# Altium schematic symbol library kmilo17pet-TI_BattMgmt.SchLib: 950 symbols (part 47 of 60)
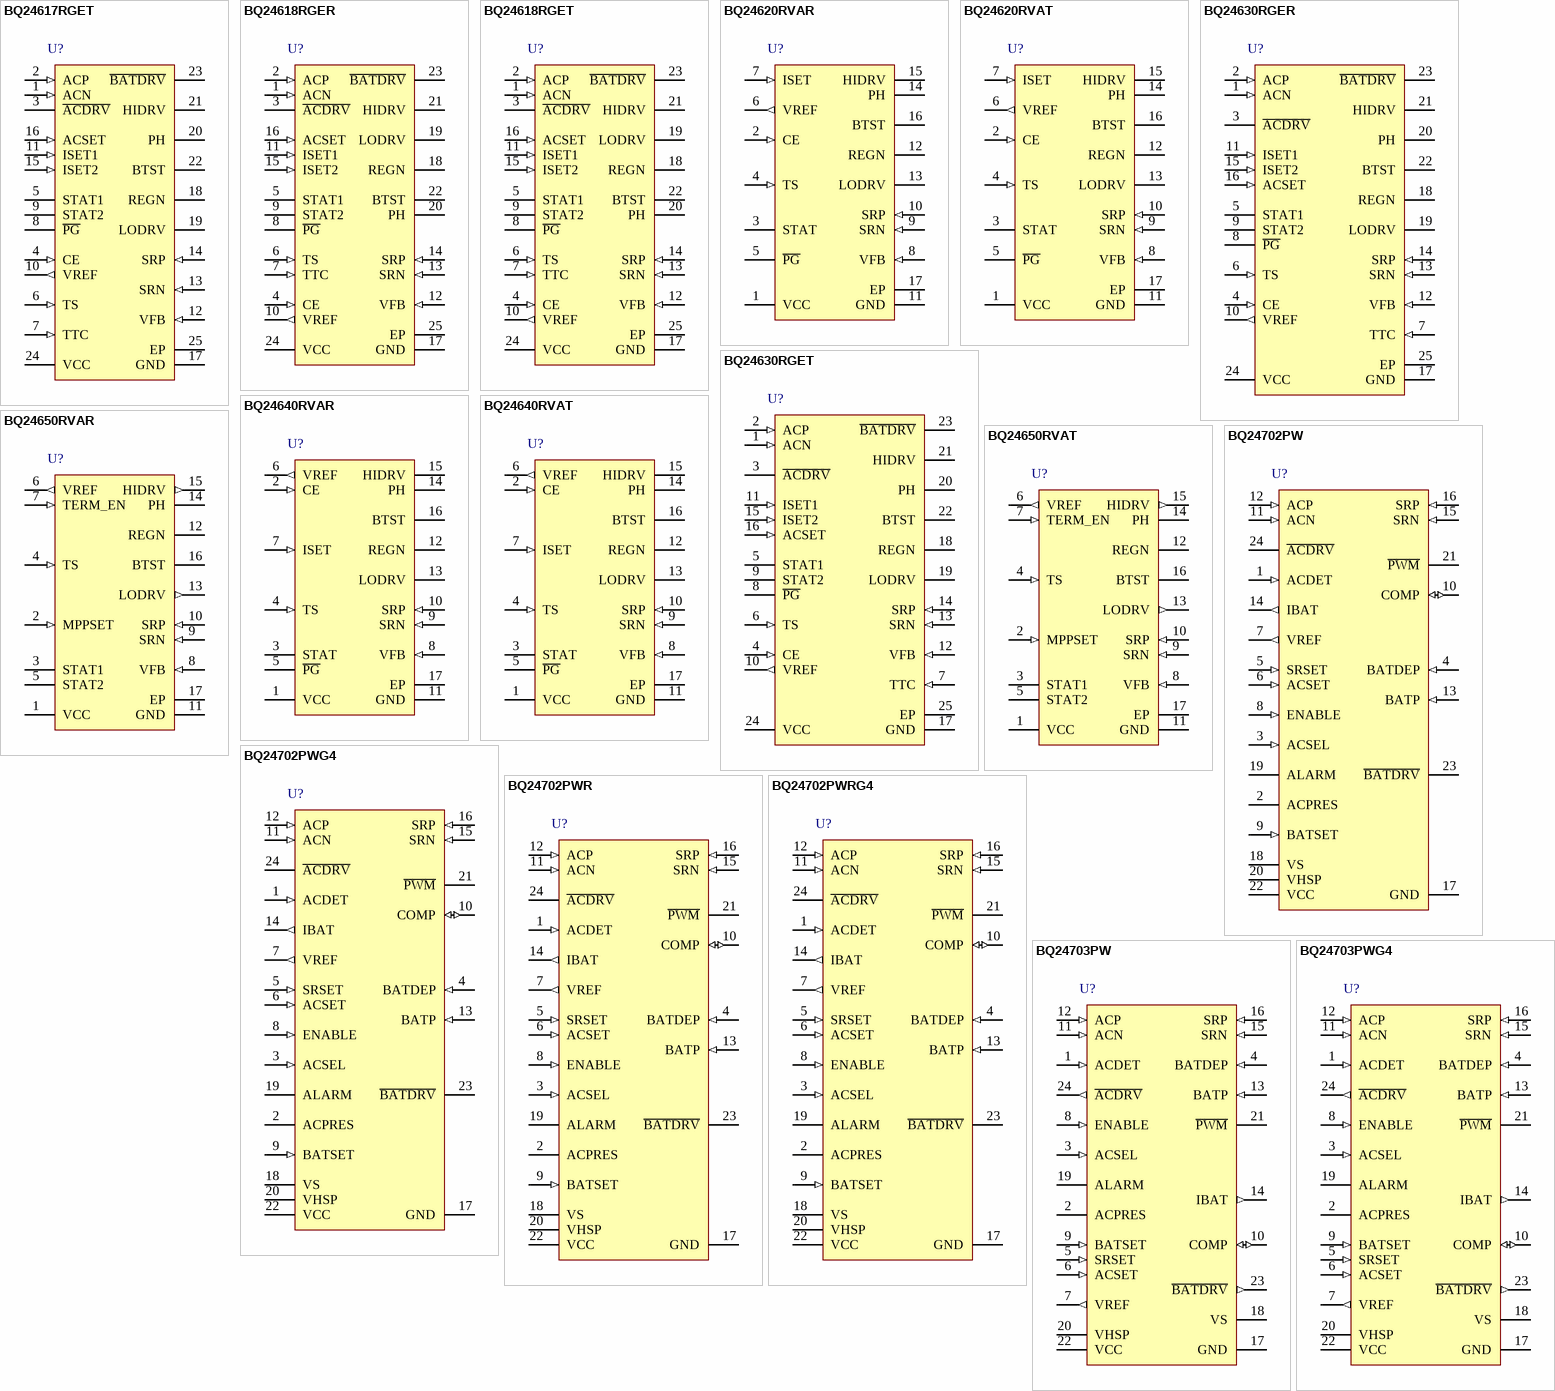
[diagram p80: symbols BQ24617RGET to BQ24703PWG4]

## BQ24703PWG4
designator U?
Multi-Chemistry Battery Charge Controller and System Power Selector, 7 V, -40 to 125 degC, 24-pin TSSOP (PW), Green (RoHS & no Sb/Br); PartNumber: BQ24703PWG4; Manufacturer: Texas Instruments; Lead Acid: Y; Over Voltage Protection: N; SubFamily: Battery Charge Management; Vin(Min)(V): 7; DatasheetVersion: SLUS553E; PackageVersion: revG, Feb-2011; PackageReference: PW24; PackageDescription: 24-Pin Thin Small Outline Package 0.65 mm Pitch; Supplier 1: Digi-Key; Supplier Part Number 1: BQ24703PWG4-ND; Supplier Part Number 3: 595-BQ24703PWG4; Eco-Plan: Green (RoHS & no Sb/Br); Li-Ion: Y; Li-Polymer: Y; NiCd: Y; NiMH: Y; Mounting Technology: Surface Mount; Code_JEDEC: MO-153; ComponentLink1Description: Datasheet; ComponentLink1URL: http://www.ti.com/general/docs/lit/getliterature.tsp?genericPartNumber=BQ24703&fileType=pdf
footprint PW24_N (TSOP, 24-Leads, Body 7.8x4.4mm, Pitch 0.65mm, IPC Medium Density)
footprint PW24_L (TSOP, 24-Leads, Body 7.8x4.4mm, Pitch 0.65mm, IPC High Density)
footprint PW24_M (TSOP, 24-Leads, Body 7.8x4.4mm, Pitch 0.65mm, IPC Low Density)
pins: 1 ACDET (in) "AC or adapter power detection", 2 ACPRES (oc) "AC power indicator", 3 ACSEL (in) "AC adapter power select", 4 BATDEP (in) "Depleted battery level", 5 SRSET (in) "Battery charge current programming voltage", 6 ACSET (in) "Adapter current programming voltage", 7 VREF (out) "Precision 5-V reference", 8 ENABLE (in) "Charge enable", 9 BATSET (in) "External override to an internal precision reference", 10 COMP (io) "Inverting input to the PWM comparator", 11 ACN (in) "Negative differential input", 12 ACP (in) "Positive differential input", 13 BATP (in) "Battery charge regulation voltage measurement input to the battery-voltage gm amplifier", 14 IBAT (out) "Battery current differential amplifier output", 15 SRN (in) "Negative differential battery current sense amplifier input", 16 SRP (in) "Positive differential battery current sense amplifier input", 17 GND (power) "Supply return and ground reference", 18 VS (power) "System (load) voltage input pin", 19 ALARM (oc) "Alarm output", 20 VHSP (power) "Voltage source to drive gates of the external MOSFETs", 21 ~{PWM} "Gate drive output", 22 VCC (power) "Operational supply voltage", 23 ~{BATDRV} (out) "Battery power source select output", 24 ~{ACDRV} (out) "AC or adapter power source selection output"

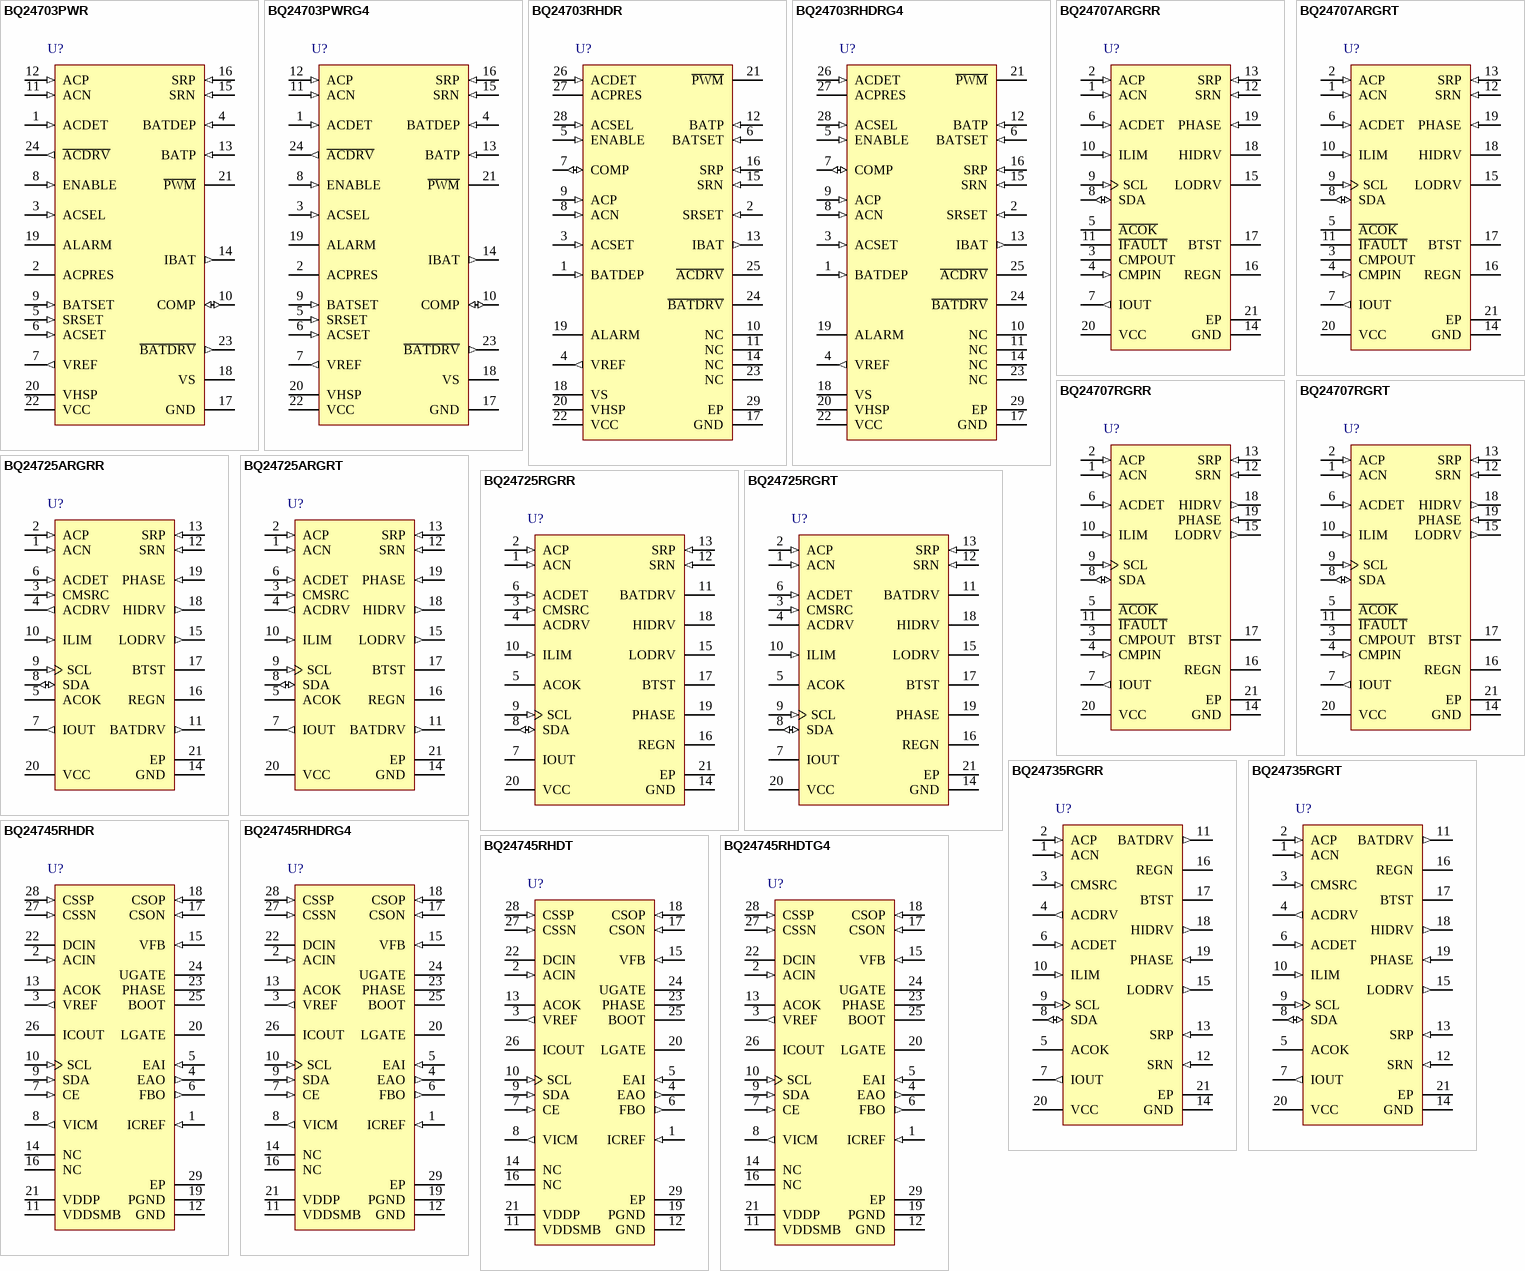
[diagram p26: symbols BQ24703PWR to BQ24745RHDTG4]

## BQ24703PWR
designator U?
Multi-Chemistry Battery Charge Controller and System Power Selector, 7 V, -40 to 125 degC, 24-pin TSSOP (PW), Green (RoHS & no Sb/Br); PartNumber: BQ24703PWR; Manufacturer: Texas Instruments; Lead Acid: Y; Over Voltage Protection: N; SubFamily: Battery Charge Management; Vin(Min)(V): 7; DatasheetVersion: SLUS553E; PackageVersion: revG, Feb-2011; PackageReference: PW24; PackageDescription: 24-Pin Thin Small Outline Package 0.65 mm Pitch; Supplier 1: Digi-Key; Supplier Part Number 1: BQ24703PWR-ND; Supplier Part Number 3: 595-BQ24703PWR; Eco-Plan: Green (RoHS & no Sb/Br); Li-Ion: Y; Li-Polymer: Y; NiCd: Y; NiMH: Y; Mounting Technology: Surface Mount; Code_JEDEC: MO-153; ComponentLink1Description: Datasheet; ComponentLink1URL: http://www.ti.com/general/docs/lit/getliterature.tsp?genericPartNumber=BQ24703&fileType=pdf
footprint PW24_N (TSOP, 24-Leads, Body 7.8x4.4mm, Pitch 0.65mm, IPC Medium Density)
footprint PW24_L (TSOP, 24-Leads, Body 7.8x4.4mm, Pitch 0.65mm, IPC High Density)
footprint PW24_M (TSOP, 24-Leads, Body 7.8x4.4mm, Pitch 0.65mm, IPC Low Density)
pins: 1 ACDET (in) "AC or adapter power detection", 2 ACPRES (oc) "AC power indicator", 3 ACSEL (in) "AC adapter power select", 4 BATDEP (in) "Depleted battery level", 5 SRSET (in) "Battery charge current programming voltage", 6 ACSET (in) "Adapter current programming voltage", 7 VREF (out) "Precision 5-V reference", 8 ENABLE (in) "Charge enable", 9 BATSET (in) "External override to an internal precision reference", 10 COMP (io) "Inverting input to the PWM comparator", 11 ACN (in) "Negative differential input", 12 ACP (in) "Positive differential input", 13 BATP (in) "Battery charge regulation voltage measurement input to the battery-voltage gm amplifier", 14 IBAT (out) "Battery current differential amplifier output", 15 SRN (in) "Negative differential battery current sense amplifier input", 16 SRP (in) "Positive differential battery current sense amplifier input", 17 GND (power) "Supply return and ground reference", 18 VS (power) "System (load) voltage input pin", 19 ALARM (oc) "Alarm output", 20 VHSP (power) "Voltage source to drive gates of the external MOSFETs", 21 ~{PWM} "Gate drive output", 22 VCC (power) "Operational supply voltage", 23 ~{BATDRV} (out) "Battery power source select output", 24 ~{ACDRV} (out) "AC or adapter power source selection output"

## BQ24703PWRG4
designator U?
Multi-Chemistry Battery Charge Controller and System Power Selector, 7 V, -40 to 125 degC, 24-pin TSSOP (PW), Green (RoHS & no Sb/Br); PartNumber: BQ24703PWRG4; Manufacturer: Texas Instruments; Lead Acid: Y; Over Voltage Protection: N; SubFamily: Battery Charge Management; Vin(Min)(V): 7; DatasheetVersion: SLUS553E; PackageVersion: revG, Feb-2011; PackageReference: PW24; PackageDescription: 24-Pin Thin Small Outline Package 0.65 mm Pitch; Supplier 1: Digi-Key; Supplier Part Number 1: BQ24703PWRG4-ND; Supplier Part Number 3: 595-BQ24703PWRG4; Eco-Plan: Green (RoHS & no Sb/Br); Li-Ion: Y; Li-Polymer: Y; NiCd: Y; NiMH: Y; Mounting Technology: Surface Mount; Code_JEDEC: MO-153; ComponentLink1Description: Datasheet; ComponentLink1URL: http://www.ti.com/general/docs/lit/getliterature.tsp?genericPartNumber=BQ24703&fileType=pdf
footprint PW24_N (TSOP, 24-Leads, Body 7.8x4.4mm, Pitch 0.65mm, IPC Medium Density)
footprint PW24_L (TSOP, 24-Leads, Body 7.8x4.4mm, Pitch 0.65mm, IPC High Density)
footprint PW24_M (TSOP, 24-Leads, Body 7.8x4.4mm, Pitch 0.65mm, IPC Low Density)
pins: 1 ACDET (in) "AC or adapter power detection", 2 ACPRES (oc) "AC power indicator", 3 ACSEL (in) "AC adapter power select", 4 BATDEP (in) "Depleted battery level", 5 SRSET (in) "Battery charge current programming voltage", 6 ACSET (in) "Adapter current programming voltage", 7 VREF (out) "Precision 5-V reference", 8 ENABLE (in) "Charge enable", 9 BATSET (in) "External override to an internal precision reference", 10 COMP (io) "Inverting input to the PWM comparator", 11 ACN (in) "Negative differential input", 12 ACP (in) "Positive differential input", 13 BATP (in) "Battery charge regulation voltage measurement input to the battery-voltage gm amplifier", 14 IBAT (out) "Battery current differential amplifier output", 15 SRN (in) "Negative differential battery current sense amplifier input", 16 SRP (in) "Positive differential battery current sense amplifier input", 17 GND (power) "Supply return and ground reference", 18 VS (power) "System (load) voltage input pin", 19 ALARM (oc) "Alarm output", 20 VHSP (power) "Voltage source to drive gates of the external MOSFETs", 21 ~{PWM} "Gate drive output", 22 VCC (power) "Operational supply voltage", 23 ~{BATDRV} (out) "Battery power source select output", 24 ~{ACDRV} (out) "AC or adapter power source selection output"

## BQ24703RHDR
designator U?
Multi-Chemistry Battery Charge Controller and System Power Selector, 7 V, -40 to 85 degC, 28-pin VQFN (RHD), Green (RoHS & no Sb/Br); PartNumber: BQ24703RHDR; Manufacturer: Texas Instruments; Lead Acid: Y; Over Voltage Protection: N; SubFamily: Battery Charge Management; Vin(Min)(V): 7; DatasheetVersion: SLUS553E; PackageVersion: revF, Sep-2011; PackageReference: RHD28-3150X3150TP; PackageDescription: 28-Pin Plastic Quad Flatpack No-Lead, 5 x 5 mm Body, 0.5 mm Pitch, Exposed Pad; Supplier 1: Digi-Key; Supplier Part Number 1: 296-17828-2-ND; Supplier Part Number 3: 296-17828-6-ND; Eco-Plan: Green (RoHS & no Sb/Br); Li-Ion: Y; Li-Polymer: Y; NiCd: Y; NiMH: Y; Mounting Technology: Surface Mount; Code_JEDEC: MO-220; ComponentLink1Description: Datasheet; ComponentLink1URL: http://www.ti.com/general/docs/lit/getliterature.tsp?genericPartNumber=BQ24703&fileType=pdf
footprint RHD28-3150X3150TP (QFN, 28-Leads, Body 5x5mm, Pitch 0.5mm, Thermal Pad 3.15x3.15mm, TI Recommended)
pins: 1 BATDEP (in) "Depleted battery level", 2 SRSET (in) "Battery charge current programming voltage", 3 ACSET (in) "Adapter current programming voltage", 4 VREF (out) "Precision 5 V reference", 5 ENABLE (in) "Charge enable", 6 BATSET (in) "External override to an internal precision reference", 7 COMP (io) "Inverting input to the PWM comparator", 8 ACN (in) "Negative differential input", 9 ACP (in) "Positive differential input", 10 NC "No internal connection", 11 NC "No internal connection", 12 BATP (in) "Battery charge regulation voltage measurement input to the battery-voltage gm amplifier", 13 IBAT (out) "Battery current differential amplifier output", 14 NC "No internal connection", 15 SRN (in) "Negative differential battery current sense amplifier input", 16 SRP (in) "Positive differential battery current sense amplifier input", 17 GND (power) "Supply return and ground reference", 18 VS (power) "System (load) voltage input pin", 19 ALARM (oc) "Alarm output", 20 VHSP (power) "Voltage source to drive gates of the external MOSFETs", 21 ~{PWM} "Gate drive output", 22 VCC (power) "Operational supply voltage", 23 NC "No internal connection", 24 ~{BATDRV} "Battery power source select output", 25 ~{ACDRV} "AC or adapter power source selection output", 26 ACDET (in) "AC or adapter power detection", 27 ACPRES (oc) "AC power indicator", 28 ACSEL (in) "AC adapter power select", 29 EP "Exposed thermal pad"

## BQ24703RHDRG4
designator U?
Multi-Chemistry Battery Charge Controller and System Power Selector, 7 V, -40 to 85 degC, 28-pin VQFN (RHD), Green (RoHS & no Sb/Br); PartNumber: BQ24703RHDRG4; Manufacturer: Texas Instruments; Lead Acid: Y; Over Voltage Protection: N; SubFamily: Battery Charge Management; Vin(Min)(V): 7; DatasheetVersion: SLUS553E; PackageVersion: revF, Sep-2011; PackageReference: RHD28-3150X3150TP; PackageDescription: 28-Pin Plastic Quad Flatpack No-Lead, 5 x 5 mm Body, 0.5 mm Pitch, Exposed Pad; Supplier 1: Digi-Key; Supplier Part Number 1: BQ24703RHDRG4-ND; Supplier Part Number 3: 595-BQ24703RHDRG4; Eco-Plan: Green (RoHS & no Sb/Br); Li-Ion: Y; Li-Polymer: Y; NiCd: Y; NiMH: Y; Mounting Technology: Surface Mount; Code_JEDEC: MO-220; ComponentLink1Description: Datasheet; ComponentLink1URL: http://www.ti.com/general/docs/lit/getliterature.tsp?genericPartNumber=BQ24703&fileType=pdf
footprint RHD28-3150X3150TP (QFN, 28-Leads, Body 5x5mm, Pitch 0.5mm, Thermal Pad 3.15x3.15mm, TI Recommended)
pins: 1 BATDEP (in) "Depleted battery level", 2 SRSET (in) "Battery charge current programming voltage", 3 ACSET (in) "Adapter current programming voltage", 4 VREF (out) "Precision 5 V reference", 5 ENABLE (in) "Charge enable", 6 BATSET (in) "External override to an internal precision reference", 7 COMP (io) "Inverting input to the PWM comparator", 8 ACN (in) "Negative differential input", 9 ACP (in) "Positive differential input", 10 NC "No internal connection", 11 NC "No internal connection", 12 BATP (in) "Battery charge regulation voltage measurement input to the battery-voltage gm amplifier", 13 IBAT (out) "Battery current differential amplifier output", 14 NC "No internal connection", 15 SRN (in) "Negative differential battery current sense amplifier input", 16 SRP (in) "Positive differential battery current sense amplifier input", 17 GND (power) "Supply return and ground reference", 18 VS (power) "System (load) voltage input pin", 19 ALARM (oc) "Alarm output", 20 VHSP (power) "Voltage source to drive gates of the external MOSFETs", 21 ~{PWM} "Gate drive output", 22 VCC (power) "Operational supply voltage", 23 NC "No internal connection", 24 ~{BATDRV} "Battery power source select output", 25 ~{ACDRV} "AC or adapter power source selection output", 26 ACDET (in) "AC or adapter power detection", 27 ACPRES (oc) "AC power indicator", 28 ACSEL (in) "AC adapter power select", 29 EP "Exposed thermal pad"

## BQ24707ARGRR
designator U?
1-4 Cell Li+ Battery SMBus Charge Controller with Independent Comparator and Advanced Circuit Prot., 4.5 V, -40 to 85 degC, 20-pin VQFN (RGR), Green (RoHS & no Sb/Br); PartNumber: BQ24707ARGRR; Manufacturer: Texas Instruments; Lead Acid: N; SubFamily: Battery Charge Management; Vin(Min)(V): 4.5; DatasheetVersion: SLUSA78B; PackageVersion: revA, Apr-2009; PackageReference: RGR20-2050X2050TP; PackageDescription: 20-Pin Plastic Quad Flatpack No-Lead, 3.5 x 3.5 mm Body, 0.5 mm Pitch, Exposed Pad; Supplier 1: Digi-Key; Supplier Part Number 1: BQ24707ARGRR-ND; Supplier Part Number 3: 595-BQ24707ARGRR; Eco-Plan: Green (RoHS & no Sb/Br); Li-Ion: N; Li-Polymer: N; NiCd: N; NiMH: N; Over Voltage Protection: N; Mounting Technology: Surface Mount; ComponentLink1Description: Datasheet; ComponentLink1URL: http://www.ti.com/general/docs/lit/getliterature.tsp?genericPartNumber=BQ24707A&fileType=pdf
footprint RGR20-2050X2050TP (QFN, 20-Leads, Body 3.5x3.5mm, Pitch 0.5mm, Thermal Pad 2.05x2.05mm, TI Recommended)
pins: 1 ACN (in) "Input current sense resistor negative input. Place an optional 0.1uF ceramic capacitor from ACN to GND for common-mode filtering. Place a 0.1uF ceramic capacitor from ACN to ACP to provide differential mode filtering.", 2 ACP (in) "Input current sense resistor positive input. Place a 0.1uF ceramic capacitor from ACP to GND for common-mode filtering. Place a 0.1uF ceramic capacitor from ACN to ACP to provide differential-mode filtering.", 3 CMPOUT (oc) "Open-drain output of independent comparator. Place a 10k ohm pull-up resistor from CMPOUT to pull-up supply rail.Internal reference is 0.6V or 2.4V, selectable by SMBus command ChargeOption(). When CMPIN is above the (See Datasheet)", 4 CMPIN (in) "Input of independent comparator. It has one 50k ohm series resistor and one 2000k ohm pull-down resistor. Program CMPIN voltage by connecting a resistor divider from the IOUT pin to the CMPIN pin to the GND pin for adapter (See Datasheet)", 5 ~{ACOK} (oc) "AC adapter detect open drain output. It is pulled LOW to GND by an internal MOSFET when the voltage on the ACDET pin is above 2.4V, voltage on the VCC pin is above UVLO and voltage on the VCC pin is 245mV above the voltage (See Datasheet)", 6 ACDET (in) "Adapter detection input. Program the adapter valid input threshold by connecting a resistor divider from the adapter input to the ACDET pin to the GND pin. When the ACDET pin is above 0.6V and VCC is above UVLO, REGN LDO is (See Datasheet)", 7 IOUT (out) "Buffered adapter or charge current output, selectable with SMBus command ChargeOption(). IOUT voltage is 20 times the differential voltage across the sense resistor. Place a 100pF or less ceramic decoupling capacitor from (See Datasheet)", 8 SDA (io) "SMBus open-drain data I/O. Connect to the SMBus data line from the host controller or smart battery. Connect a 10k ohm pull-up resistor according to SMBus specifications.", 9 SCL (in) "SMBus open-drain clock input. Connect to the SMBus clock line from the host controller or smart battery. Connect a 10k ohm pull-up resistor according to SMBus specifications.", 10 ILIM (in) "Charge current limit input. Program ILIM voltage by connecting a resistor divider from the system reference 3.3V rail to the ILIM pin to the GND pin. The lower of the ILIM voltage or DAC limit voltage sets the charge current (See Datasheet)", 11 ~{IFAULT} (oc) "Open-drain output. It is pulled LOW by an internal MOSFET when ACOC or a short circuit is detected. It is pulled HIGH to the external pull-up supply rail by an external pull-up resistor in normal condition.", 12 SRN (in) "Charge current sense resistor negative input. The SRN pin is for battery voltage sensing as well. Connect SRN pin to a 7.5 ohm resistor first then from resistor another terminal connect a 0.1uF ceramic capacitor to GND for (See Datasheet)", 13 SRP (in) "Charge current sense resistor positive input. Connect SRP pin to a 10 ohm resistor first then from resistor another terminal connect to current sensing resistor. Connect a 0.1uF ceramic capacitor between current sensing (See Datasheet)", 14 GND (power) "IC ground. On PCB layout, connect to the analog ground plane, and only connect to power ground plane through the PowerPAD underneath the IC.", 15 LODRV "Low side power MOSFET driver output. Connect to low side n-channel MOSFET gate.", 16 REGN (power) "Linear regulator output. REGN is the output of the 6V linear regulator supplied from VCC. The LDO is active when the voltage on the ACDET pin is above 0.6V and voltage on VCC is above UVLO. Connect a 1uF ceramic capacitor (See Datasheet)", 17 BTST (power) "High side power MOSFET driver power supply. Connect a 0.047uF capacitor from BTST to PHASE, and a bootstrap Schottky diode from REGN to BTST.", 18 HIDRV "High side power MOSFET driver output. Connect to the high side n-channel MOSFET gate.", 19 PHASE (in) "High side power MOSFET driver source. Connect to the source of the high side n-channel MOSFET.", 20 VCC (power) "Input supply, diode OR from adapter or battery voltage. Use 10 ohm resistor and 1uF capacitor to ground as low pass filter to limit inrush current.", 21 EP (power) "Exposed pad beneath the IC. Analog ground and power ground star-connected only at the PowerPAD plane. Always solder PowerPAD to the board, and have vias on the PowerPAD plane connecting to analog ground and power ground (See Datasheet)"

## BQ24707ARGRT
designator U?
1-4 Cell Li+ Battery SMBus Charge Controller with Independent Comparator and Advanced Circuit Prot., 4.5 V, -40 to 85 degC, 20-pin VQFN (RGR), Green (RoHS & no Sb/Br); PartNumber: BQ24707ARGRT; Manufacturer: Texas Instruments; Lead Acid: N; SubFamily: Battery Charge Management; Vin(Min)(V): 4.5; DatasheetVersion: SLUSA78B; PackageVersion: revA, Apr-2009; PackageReference: RGR20-2050X2050TP; PackageDescription: 20-Pin Plastic Quad Flatpack No-Lead, 3.5 x 3.5 mm Body, 0.5 mm Pitch, Exposed Pad; Supplier 1: Digi-Key; Supplier Part Number 1: 296-28316-2-ND; Supplier Part Number 3: 296-28316-6-ND; Eco-Plan: Green (RoHS & no Sb/Br); Li-Ion: N; Li-Polymer: N; NiCd: N; NiMH: N; Over Voltage Protection: N; Mounting Technology: Surface Mount; ComponentLink1Description: Datasheet; ComponentLink1URL: http://www.ti.com/general/docs/lit/getliterature.tsp?genericPartNumber=BQ24707A&fileType=pdf
footprint RGR20-2050X2050TP (QFN, 20-Leads, Body 3.5x3.5mm, Pitch 0.5mm, Thermal Pad 2.05x2.05mm, TI Recommended)
pins: 1 ACN (in) "Input current sense resistor negative input. Place an optional 0.1uF ceramic capacitor from ACN to GND for common-mode filtering. Place a 0.1uF ceramic capacitor from ACN to ACP to provide differential mode filtering.", 2 ACP (in) "Input current sense resistor positive input. Place a 0.1uF ceramic capacitor from ACP to GND for common-mode filtering. Place a 0.1uF ceramic capacitor from ACN to ACP to provide differential-mode filtering.", 3 CMPOUT (oc) "Open-drain output of independent comparator. Place a 10k ohm pull-up resistor from CMPOUT to pull-up supply rail.Internal reference is 0.6V or 2.4V, selectable by SMBus command ChargeOption(). When CMPIN is above the (See Datasheet)", 4 CMPIN (in) "Input of independent comparator. It has one 50k ohm series resistor and one 2000k ohm pull-down resistor. Program CMPIN voltage by connecting a resistor divider from the IOUT pin to the CMPIN pin to the GND pin for adapter (See Datasheet)", 5 ~{ACOK} (oc) "AC adapter detect open drain output. It is pulled LOW to GND by an internal MOSFET when the voltage on the ACDET pin is above 2.4V, voltage on the VCC pin is above UVLO and voltage on the VCC pin is 245mV above the voltage (See Datasheet)", 6 ACDET (in) "Adapter detection input. Program the adapter valid input threshold by connecting a resistor divider from the adapter input to the ACDET pin to the GND pin. When the ACDET pin is above 0.6V and VCC is above UVLO, REGN LDO is (See Datasheet)", 7 IOUT (out) "Buffered adapter or charge current output, selectable with SMBus command ChargeOption(). IOUT voltage is 20 times the differential voltage across the sense resistor. Place a 100pF or less ceramic decoupling capacitor from (See Datasheet)", 8 SDA (io) "SMBus open-drain data I/O. Connect to the SMBus data line from the host controller or smart battery. Connect a 10k ohm pull-up resistor according to SMBus specifications.", 9 SCL (in) "SMBus open-drain clock input. Connect to the SMBus clock line from the host controller or smart battery. Connect a 10k ohm pull-up resistor according to SMBus specifications.", 10 ILIM (in) "Charge current limit input. Program ILIM voltage by connecting a resistor divider from the system reference 3.3V rail to the ILIM pin to the GND pin. The lower of the ILIM voltage or DAC limit voltage sets the charge current (See Datasheet)", 11 ~{IFAULT} (oc) "Open-drain output. It is pulled LOW by an internal MOSFET when ACOC or a short circuit is detected. It is pulled HIGH to the external pull-up supply rail by an external pull-up resistor in normal condition.", 12 SRN (in) "Charge current sense resistor negative input. The SRN pin is for battery voltage sensing as well. Connect SRN pin to a 7.5 ohm resistor first then from resistor another terminal connect a 0.1uF ceramic capacitor to GND for (See Datasheet)", 13 SRP (in) "Charge current sense resistor positive input. Connect SRP pin to a 10 ohm resistor first then from resistor another terminal connect to current sensing resistor. Connect a 0.1uF ceramic capacitor between current sensing (See Datasheet)", 14 GND (power) "IC ground. On PCB layout, connect to the analog ground plane, and only connect to power ground plane through the PowerPAD underneath the IC.", 15 LODRV "Low side power MOSFET driver output. Connect to low side n-channel MOSFET gate.", 16 REGN (power) "Linear regulator output. REGN is the output of the 6V linear regulator supplied from VCC. The LDO is active when the voltage on the ACDET pin is above 0.6V and voltage on VCC is above UVLO. Connect a 1uF ceramic capacitor (See Datasheet)", 17 BTST (power) "High side power MOSFET driver power supply. Connect a 0.047uF capacitor from BTST to PHASE, and a bootstrap Schottky diode from REGN to BTST.", 18 HIDRV "High side power MOSFET driver output. Connect to the high side n-channel MOSFET gate.", 19 PHASE (in) "High side power MOSFET driver source. Connect to the source of the high side n-channel MOSFET.", 20 VCC (power) "Input supply, diode OR from adapter or battery voltage. Use 10 ohm resistor and 1uF capacitor to ground as low pass filter to limit inrush current.", 21 EP (power) "Exposed pad beneath the IC. Analog ground and power ground star-connected only at the PowerPAD plane. Always solder PowerPAD to the board, and have vias on the PowerPAD plane connecting to analog ground and power ground (See Datasheet)"

## BQ24707RGRR
designator U?
High-Frequency, High Performance SMBus Charge Controller, 4.5 V, -40 to 85 degC, 20-pin VQFN (RGR), Green (RoHS & no Sb/Br); PartNumber: BQ24707RGRR; Manufacturer: Texas Instruments; Lead Acid: N; SubFamily: Battery Charge Management; Vin(Min)(V): 4.5; DatasheetVersion: SLUSA78B; PackageVersion: revA, Apr-2009; PackageReference: RGR20-2050X2050TP; PackageDescription: 20-Pin Plastic Quad Flatpack No-Lead, 3.5 x 3.5 mm Body, 0.5 mm Pitch, Exposed Pad; Supplier 1: Digi-Key; Supplier Part Number 1: 296-27702-2-ND; Supplier Part Number 3: 296-27702-6-ND; Eco-Plan: Green (RoHS & no Sb/Br); Li-Ion: N; Li-Polymer: N; NiCd: N; NiMH: N; Over Voltage Protection: N; Mounting Technology: Surface Mount; ComponentLink1Description: Datasheet; ComponentLink1URL: http://www.ti.com/general/docs/lit/getliterature.tsp?genericPartNumber=BQ24707&fileType=pdf
footprint RGR20-2050X2050TP (QFN, 20-Leads, Body 3.5x3.5mm, Pitch 0.5mm, Thermal Pad 2.05x2.05mm, TI Recommended)
pins: 1 ACN (in) "Input current sense resistor negative input. Place an optional 0.1uF ceramic capacitor from ACN to GND for common-mode filtering. Place a 0.1uF ceramic capacitor from ACN to ACP to provide differential mode filtering.", 2 ACP (in) "Input current sense resistor positive input. Place a 0.1uF ceramic capacitor from ACP to GND for common-mode filtering. Place a 0.1uF ceramic capacitor from ACN to ACP to provide differential-mode filtering.", 3 CMPOUT (oc) "Open-drain output of independent comparator. Place a 10k ohm pull-up resistor from CMPOUT to pull-up supply rail.Internal reference is 0.6V or 2.4V, selectable by SMBus command ChargeOption(). When CMPIN is above the (See Datasheet)", 4 CMPIN (in) "Input of independent comparator. It has one 50k ohm series resistor and one 2000k ohm pull-down resistor. Program CMPIN voltage by connecting a resistor divider from the IOUT pin to the CMPIN pin to the GND pin for adapter (See Datasheet)", 5 ~{ACOK} (oc) "AC adapter detect open drain output. It is pulled LOW to GND by an internal MOSFET when the voltage on the ACDET pin is above 2.4V, voltage on the VCC pin is above UVLO and voltage on the VCC pin is 245mV above the voltage (See Datasheet)", 6 ACDET (in) "Adapter detection input. Program the adapter valid input threshold by connecting a resistor divider from the adapter input to the ACDET pin to the GND pin. When the ACDET pin is above 0.6V and VCC is above UVLO, REGN LDO is (See Datasheet)", 7 IOUT (out) "Buffered adapter or charge current output, selectable with SMBus command ChargeOption(). IOUT voltage is 20 times the differential voltage across the sense resistor. Place a 100pF or less ceramic decoupling capacitor from (See Datasheet)", 8 SDA (io) "SMBus open-drain data I/O. Connect to the SMBus data line from the host controller or smart battery. Connect a 10k ohm pull-up resistor according to SMBus specifications.", 9 SCL (in) "SMBus open-drain clock input. Connect to the SMBus clock line from the host controller or smart battery. Connect a 10k ohm pull-up resistor according to SMBus specifications.", 10 ILIM (in) "Charge current limit input. Program ILIM voltage by connecting a resistor divider from the system reference 3.3V rail to the ILIM pin to the GND pin. The lower of the ILIM voltage or DAC limit voltage sets the charge current (See Datasheet)", 11 ~{IFAULT} (oc) "Open-drain output. It is pulled LOW by an internal MOSFET when ACOC or a short circuit is detected. It is pulled HIGH to the external pull-up supply rail by an external pull-up resistor in normal condition.", 12 SRN (in) "Charge current sense resistor negative input. The SRN pin is for battery voltage sensing as well. Connect SRN pin to a 7.5 ohm resistor first then from resistor another terminal connect a 0.1uF ceramic capacitor to GND for (See Datasheet)", 13 SRP (in) "Charge current sense resistor positive input. Connect SRP pin to a 10 O resistor first then from resistor another terminal connect to current sensing resistor. Connect a 0.1uF ceramic capacitor between current sensing (See Datasheet)", 14 GND (power) "IC ground. On PCB layout, connect to the analog ground plane, and only connect to power ground plane through the PowerPAD underneath the IC.", 15 LODRV (out) "Low side power MOSFET driver output. Connect to low side n-channel MOSFET gate.", 16 REGN (power) "Linear regulator output. REGN is the output of the 6V linear regulator supplied from VCC. The LDO is active when the voltage on the ACDET pin is above 0.6V and voltage on VCC is above UVLO. Connect a 1uF ceramic capacitor (See Datasheet)", 17 BTST (power) "High side power MOSFET driver power supply. Connect a 0.047uF capacitor from BTST to PHASE, and a bootstrap Schottky diode from REGN to BTST.", 18 HIDRV (out) "High side power MOSFET driver output. Connect to the high side n-channel MOSFET gate.", 19 PHASE (in) "High side power MOSFET driver source. Connect to the source of the high side n-channel MOSFET.", 20 VCC (power) "Input supply, diode OR from adapter or battery voltage. Use 10 ohm resistor and 1uF capacitor to ground as low pass filter to limit inrush current.", 21 EP (power) "Exposed pad beneath the IC. Analog ground and power ground star-connected only at the PowerPAD plane. Always solder PowerPAD to the board, and have vias on the PowerPAD plane connecting to analog ground and power ground (See Datasheet)"

## BQ24707RGRT
designator U?
High-Frequency, High Performance SMBus Charge Controller, 4.5 V, -40 to 85 degC, 20-pin VQFN (RGR), Green (RoHS & no Sb/Br); PartNumber: BQ24707RGRT; Manufacturer: Texas Instruments; Lead Acid: N; SubFamily: Battery Charge Management; Vin(Min)(V): 4.5; DatasheetVersion: SLUSA78B; PackageVersion: revA, Apr-2009; PackageReference: RGR20-2050X2050TP; PackageDescription: 20-Pin Plastic Quad Flatpack No-Lead, 3.5 x 3.5 mm Body, 0.5 mm Pitch, Exposed Pad; Supplier 1: Digi-Key; Supplier Part Number 1: 296-27826-2-ND; Supplier Part Number 3: 296-27826-6-ND; Eco-Plan: Green (RoHS & no Sb/Br); Li-Ion: N; Li-Polymer: N; NiCd: N; NiMH: N; Over Voltage Protection: N; Mounting Technology: Surface Mount; ComponentLink1Description: Datasheet; ComponentLink1URL: http://www.ti.com/general/docs/lit/getliterature.tsp?genericPartNumber=BQ24707&fileType=pdf
footprint RGR20-2050X2050TP (QFN, 20-Leads, Body 3.5x3.5mm, Pitch 0.5mm, Thermal Pad 2.05x2.05mm, TI Recommended)
pins: 1 ACN (in) "Input current sense resistor negative input. Place an optional 0.1uF ceramic capacitor from ACN to GND for common-mode filtering. Place a 0.1uF ceramic capacitor from ACN to ACP to provide differential mode filtering.", 2 ACP (in) "Input current sense resistor positive input. Place a 0.1uF ceramic capacitor from ACP to GND for common-mode filtering. Place a 0.1uF ceramic capacitor from ACN to ACP to provide differential-mode filtering.", 3 CMPOUT (oc) "Open-drain output of independent comparator. Place a 10k ohm pull-up resistor from CMPOUT to pull-up supply rail.Internal reference is 0.6V or 2.4V, selectable by SMBus command ChargeOption(). When CMPIN is above the (See Datasheet)", 4 CMPIN (in) "Input of independent comparator. It has one 50k ohm series resistor and one 2000k ohm pull-down resistor. Program CMPIN voltage by connecting a resistor divider from the IOUT pin to the CMPIN pin to the GND pin for adapter (See Datasheet)", 5 ~{ACOK} (oc) "AC adapter detect open drain output. It is pulled LOW to GND by an internal MOSFET when the voltage on the ACDET pin is above 2.4V, voltage on the VCC pin is above UVLO and voltage on the VCC pin is 245mV above the voltage (See Datasheet)", 6 ACDET (in) "Adapter detection input. Program the adapter valid input threshold by connecting a resistor divider from the adapter input to the ACDET pin to the GND pin. When the ACDET pin is above 0.6V and VCC is above UVLO, REGN LDO is (See Datasheet)", 7 IOUT (out) "Buffered adapter or charge current output, selectable with SMBus command ChargeOption(). IOUT voltage is 20 times the differential voltage across the sense resistor. Place a 100pF or less ceramic decoupling capacitor from (See Datasheet)", 8 SDA (io) "SMBus open-drain data I/O. Connect to the SMBus data line from the host controller or smart battery. Connect a 10k ohm pull-up resistor according to SMBus specifications.", 9 SCL (in) "SMBus open-drain clock input. Connect to the SMBus clock line from the host controller or smart battery. Connect a 10k ohm pull-up resistor according to SMBus specifications.", 10 ILIM (in) "Charge current limit input. Program ILIM voltage by connecting a resistor divider from the system reference 3.3V rail to the ILIM pin to the GND pin. The lower of the ILIM voltage or DAC limit voltage sets the charge current (See Datasheet)", 11 ~{IFAULT} (oc) "Open-drain output. It is pulled LOW by an internal MOSFET when ACOC or a short circuit is detected. It is pulled HIGH to the external pull-up supply rail by an external pull-up resistor in normal condition.", 12 SRN (in) "Charge current sense resistor negative input. The SRN pin is for battery voltage sensing as well. Connect SRN pin to a 7.5 ohm resistor first then from resistor another terminal connect a 0.1uF ceramic capacitor to GND for (See Datasheet)", 13 SRP (in) "Charge current sense resistor positive input. Connect SRP pin to a 10 O resistor first then from resistor another terminal connect to current sensing resistor. Connect a 0.1uF ceramic capacitor between current sensing (See Datasheet)", 14 GND (power) "IC ground. On PCB layout, connect to the analog ground plane, and only connect to power ground plane through the PowerPAD underneath the IC.", 15 LODRV (out) "Low side power MOSFET driver output. Connect to low side n-channel MOSFET gate.", 16 REGN (power) "Linear regulator output. REGN is the output of the 6V linear regulator supplied from VCC. The LDO is active when the voltage on the ACDET pin is above 0.6V and voltage on VCC is above UVLO. Connect a 1uF ceramic capacitor (See Datasheet)", 17 BTST (power) "High side power MOSFET driver power supply. Connect a 0.047uF capacitor from BTST to PHASE, and a bootstrap Schottky diode from REGN to BTST.", 18 HIDRV (out) "High side power MOSFET driver output. Connect to the high side n-channel MOSFET gate.", 19 PHASE (in) "High side power MOSFET driver source. Connect to the source of the high side n-channel MOSFET.", 20 VCC (power) "Input supply, diode OR from adapter or battery voltage. Use 10 ohm resistor and 1uF capacitor to ground as low pass filter to limit inrush current.", 21 EP (power) "Exposed pad beneath the IC. Analog ground and power ground star-connected only at the PowerPAD plane. Always solder PowerPAD to the board, and have vias on the PowerPAD plane connecting to analog ground and power ground (See Datasheet)"

## BQ24725ARGRR
designator U?
1-4 Cell Li+ Battery SMBus Charge Controller with N-Channel Power MOSFET Selector, 4.5 V, -40 to 85 degC, 20-pin VQFN (RGR), Green (RoHS & no Sb/Br); PartNumber: BQ24725ARGRR; Manufacturer: Texas Instruments; Lead Acid: N; SubFamily: Battery Charge Management; Vin(Min)(V): 4.5; DatasheetVersion: SLUSAL0; PackageVersion: revA, Apr-2009; PackageReference: RGR20-2050X2050TP; PackageDescription: 20-Pin Plastic Quad Flatpack No-Lead, 3.5 x 3.5 mm Body, 0.5 mm Pitch, Exposed Pad; Supplier 1: Digi-Key; Supplier Part Number 1: BQ24725ARGRR-ND; Supplier Part Number 3: 595-BQ24725ARGRR; Eco-Plan: Green (RoHS & no Sb/Br); Li-Ion: N; Li-Polymer: N; NiCd: N; NiMH: N; Over Voltage Protection: N; Mounting Technology: Surface Mount; ComponentLink1Description: Datasheet; ComponentLink1URL: http://www.ti.com/general/docs/lit/getliterature.tsp?genericPartNumber=BQ24725A&fileType=pdf
footprint RGR20-2050X2050TP (QFN, 20-Leads, Body 3.5x3.5mm, Pitch 0.5mm, Thermal Pad 2.05x2.05mm, TI Recommended)
pins: 1 ACN (in) "Input current sense resistor negative input. Place an optional 0.1uF ceramic capacitor from ACN to GND for common-mode filtering. Place a 0.1uF ceramic capacitor from ACN to ACP to provide differential mode filtering.", 2 ACP (in) "Input current sense resistor positive input. Place a 0.1uF ceramic capacitor from ACP to GND for common-mode filtering. Place a 0.1uF ceramic capacitor from ACN to ACP to provide differential-mode filtering.", 3 CMSRC (in) "ACDRV charge pump source input. Place a 4k ohm resistor from CMSRC to the common source of ACFET (Q1) and RBFET (Q2) limits the in-rush current on CMSRC pin.", 4 ACDRV (out) "Charge pump output to drive both adapter input n-channel MOSFET (ACFET) and reverse blocking n-channel MOSFET (RBFET). ACDRV voltage is 6V above CMSRC when voltage on ACDET pin is between 2.4V to 3.15V, voltage on VCC pin is (See Datasheet)", 5 ACOK (oc) "AC adapter detection open drain output. It is pulled HIGH to external pull-up supply rail by external pull-up resistor when voltage on ACDET pin is between 2.4V and 3.15V, and voltage on VCC is above UVLO and voltage on VCC (See Datasheet)", 6 ACDET (in) "Adapter detection input. Program adapter valid input threshold by connecting a resistor divider from adapter input to ACDET pin to GND pin. When ACDET pin is above 0.6V and VCC is above UVLO, REGN LDO is present, ACOK (See Datasheet)", 7 IOUT (out) "Buffered adapter or charge current output, selectable with SMBus command ChargeOption(). IOUT voltage is 20 times the differential voltage across sense resistor. Place a 100pF or less ceramic decoupling capacitor from IOUT (See Datasheet)", 8 SDA (io) "SMBus open-drain data I/O. Connect to SMBus data line from the host controller or smart battery. Connect a 10 k ohm  pull-up resistor according to SMBus specifications.", 9 SCL (in) "SMBus open-drain clock input. Connect to SMBus clock line from the host controller or smart battery. Connect a 10k ohm pull-up resistor according to SMBus specifications.", 10 ILIM (in) "Charge current limit input. Program ILIM voltage by connecting a resistor divider from system reference 3.3V rail to ILIM pin to GND pin. The lower of ILIM voltage or DAC limit voltage sets charge current regulation limit. (See Datasheet)", 11 BATDRV (out) "Charge pump output to drive Battery to System n-channel MOSFET (BATFET). BATDRV voltage is 6V above SRN to turn on BATFET to power the system from battery. BATDRV voltage is SRN voltage to turn off BATFET to power system (See Datasheet)", 12 SRN (in) "Charge current sense resistor negative input. SRN pin is for battery voltage sensing as well. Connect SRN pin to a 7.5 ohm resistor first then from resistor another terminal connect a 0.1uF ceramic capacitor to GND for (See Datasheet)", 13 SRP (in) "Charge current sense resistor positive input. Connect SRP pin to a 10 ohm resistor first then from resistor another terminal connect to current sensing resistor. Connect a 0.1uF ceramic capacitor between current sensing (See Datasheet)", 14 GND (power) "IC ground. On PCB layout, connect to analog ground plane, and only connect to power ground plane through the power pad underneath IC.", 15 LODRV (out) "Low side power MOSFET driver output. Connect to low side n-channel MOSFET gate.", 16 REGN (power) "Linear regulator output. REGN is the output of the 6V linear regulator supplied from VCC. The LDO is active when voltage on ACDET pin is above 0.6V and voltage on VCC is above UVLO. Connect a 1uF ceramic capacitor from REGN (See Datasheet)", 17 BTST (power) "High side power MOSFET driver power supply. Connect a 0.047uF capacitor from BTST to PHASE, and a bootstrap Schottky diode from REGN to BTST.", 18 HIDRV (out) "High side power MOSFET driver output. Connect to the high side n-channel MOSFET gate.", 19 PHASE (in) "High side power MOSFET driver source. Connect to the source of the high side n-channel MOSFET.", 20 VCC (power) "Input supply, diode OR from adapter or battery voltage. Use 10O resistor and 1uF capacitor to ground as low pass filter to limit inrush current.", 21 EP (power) "Exposed pad beneath the IC. Analog ground and power ground star-connected only at the PowerPad plane. Always solder PowerPad to the board, and have vias on the PowerPad plane connecting to analog ground and power ground (See Datasheet)"

## BQ24725ARGRT
designator U?
1-4 Cell Li+ Battery SMBus Charge Controller with N-Channel Power MOSFET Selector, 4.5 V, -40 to 85 degC, 20-pin VQFN (RGR), Green (RoHS & no Sb/Br); PartNumber: BQ24725ARGRT; Manufacturer: Texas Instruments; Lead Acid: N; SubFamily: Battery Charge Management; Vin(Min)(V): 4.5; DatasheetVersion: SLUSAL0; PackageVersion: revA, Apr-2009; PackageReference: RGR20-2050X2050TP; PackageDescription: 20-Pin Plastic Quad Flatpack No-Lead, 3.5 x 3.5 mm Body, 0.5 mm Pitch, Exposed Pad; Supplier 1: Digi-Key; Supplier Part Number 1: 296-29650-2-ND; Supplier Part Number 3: 296-29650-6-ND; Eco-Plan: Green (RoHS & no Sb/Br); Li-Ion: N; Li-Polymer: N; NiCd: N; NiMH: N; Over Voltage Protection: N; Mounting Technology: Surface Mount; ComponentLink1Description: Datasheet; ComponentLink1URL: http://www.ti.com/general/docs/lit/getliterature.tsp?genericPartNumber=BQ24725A&fileType=pdf
footprint RGR20-2050X2050TP (QFN, 20-Leads, Body 3.5x3.5mm, Pitch 0.5mm, Thermal Pad 2.05x2.05mm, TI Recommended)
pins: 1 ACN (in) "Input current sense resistor negative input. Place an optional 0.1uF ceramic capacitor from ACN to GND for common-mode filtering. Place a 0.1uF ceramic capacitor from ACN to ACP to provide differential mode filtering.", 2 ACP (in) "Input current sense resistor positive input. Place a 0.1uF ceramic capacitor from ACP to GND for common-mode filtering. Place a 0.1uF ceramic capacitor from ACN to ACP to provide differential-mode filtering.", 3 CMSRC (in) "ACDRV charge pump source input. Place a 4k ohm resistor from CMSRC to the common source of ACFET (Q1) and RBFET (Q2) limits the in-rush current on CMSRC pin.", 4 ACDRV (out) "Charge pump output to drive both adapter input n-channel MOSFET (ACFET) and reverse blocking n-channel MOSFET (RBFET). ACDRV voltage is 6V above CMSRC when voltage on ACDET pin is between 2.4V to 3.15V, voltage on VCC pin is (See Datasheet)", 5 ACOK (oc) "AC adapter detection open drain output. It is pulled HIGH to external pull-up supply rail by external pull-up resistor when voltage on ACDET pin is between 2.4V and 3.15V, and voltage on VCC is above UVLO and voltage on VCC (See Datasheet)", 6 ACDET (in) "Adapter detection input. Program adapter valid input threshold by connecting a resistor divider from adapter input to ACDET pin to GND pin. When ACDET pin is above 0.6V and VCC is above UVLO, REGN LDO is present, ACOK (See Datasheet)", 7 IOUT (out) "Buffered adapter or charge current output, selectable with SMBus command ChargeOption(). IOUT voltage is 20 times the differential voltage across sense resistor. Place a 100pF or less ceramic decoupling capacitor from IOUT (See Datasheet)", 8 SDA (io) "SMBus open-drain data I/O. Connect to SMBus data line from the host controller or smart battery. Connect a 10 k ohm  pull-up resistor according to SMBus specifications.", 9 SCL (in) "SMBus open-drain clock input. Connect to SMBus clock line from the host controller or smart battery. Connect a 10k ohm pull-up resistor according to SMBus specifications.", 10 ILIM (in) "Charge current limit input. Program ILIM voltage by connecting a resistor divider from system reference 3.3V rail to ILIM pin to GND pin. The lower of ILIM voltage or DAC limit voltage sets charge current regulation limit. (See Datasheet)", 11 BATDRV (out) "Charge pump output to drive Battery to System n-channel MOSFET (BATFET). BATDRV voltage is 6V above SRN to turn on BATFET to power the system from battery. BATDRV voltage is SRN voltage to turn off BATFET to power system (See Datasheet)", 12 SRN (in) "Charge current sense resistor negative input. SRN pin is for battery voltage sensing as well. Connect SRN pin to a 7.5 ohm resistor first then from resistor another terminal connect a 0.1uF ceramic capacitor to GND for (See Datasheet)", 13 SRP (in) "Charge current sense resistor positive input. Connect SRP pin to a 10 ohm resistor first then from resistor another terminal connect to current sensing resistor. Connect a 0.1uF ceramic capacitor between current sensing (See Datasheet)", 14 GND (power) "IC ground. On PCB layout, connect to analog ground plane, and only connect to power ground plane through the power pad underneath IC.", 15 LODRV (out) "Low side power MOSFET driver output. Connect to low side n-channel MOSFET gate.", 16 REGN (power) "Linear regulator output. REGN is the output of the 6V linear regulator supplied from VCC. The LDO is active when voltage on ACDET pin is above 0.6V and voltage on VCC is above UVLO. Connect a 1uF ceramic capacitor from REGN (See Datasheet)", 17 BTST (power) "High side power MOSFET driver power supply. Connect a 0.047uF capacitor from BTST to PHASE, and a bootstrap Schottky diode from REGN to BTST.", 18 HIDRV (out) "High side power MOSFET driver output. Connect to the high side n-channel MOSFET gate.", 19 PHASE (in) "High side power MOSFET driver source. Connect to the source of the high side n-channel MOSFET.", 20 VCC (power) "Input supply, diode OR from adapter or battery voltage. Use 10O resistor and 1uF capacitor to ground as low pass filter to limit inrush current.", 21 EP (power) "Exposed pad beneath the IC. Analog ground and power ground star-connected only at the PowerPad plane. Always solder PowerPad to the board, and have vias on the PowerPad plane connecting to analog ground and power ground (See Datasheet)"

## BQ24725RGRR
designator U?
2 to 4 Cell Li+ Battery SMBus Charge Controller with N-Channel Power MOSFET Selector, 4.5 V, -40 to 85 degC, 20-pin VQFN (RGR), Green (RoHS & no Sb/Br); PartNumber: BQ24725RGRR; Manufacturer: Texas Instruments; Lead Acid: N; SubFamily: Battery Charge Management; Vin(Min)(V): 4.5; DatasheetVersion: SLUS702A; PackageVersion: revA, Apr-2009; PackageReference: RGR20-2050X2050TP; PackageDescription: 20-Pin Plastic Quad Flatpack No-Lead, 3.5 x 3.5 mm Body, 0.5 mm Pitch, Exposed Pad; Supplier 1: Digi-Key; Supplier Part Number 1: 296-27692-2-ND; Supplier Part Number 3: 296-27692-6-ND; Eco-Plan: Green (RoHS & no Sb/Br); Li-Ion: N; Li-Polymer: N; NiCd: N; NiMH: N; Over Voltage Protection: N; Mounting Technology: Surface Mount; ComponentLink1Description: Datasheet; ComponentLink1URL: http://www.ti.com/general/docs/lit/getliterature.tsp?genericPartNumber=BQ24725&fileType=pdf
footprint RGR20-2050X2050TP (QFN, 20-Leads, Body 3.5x3.5mm, Pitch 0.5mm, Thermal Pad 2.05x2.05mm, TI Recommended)
pins: 1 ACN (in) "Input current sense resistor negative input. Place an optional 0.1 uF ceramic capacitor from ACN to GND for common-mode filtering. Place a 0.1uF ceramic capacitor from ACN to ACP to provide differential mode filtering.", 2 ACP (in) "Input current sense resistor positive input. Place a 0.1uF ceramic capacitor from ACP to GND for common-mode filtering. Place a 0.1 uF ceramic capacitor from ACN to ACP to provide differential-mode filtering.", 3 CMSRC (in) "ACDRV charge pump source input. Place a 4k ohm resistor from CMSRC to the common source of ACFET (Q1) and RBFET (Q2) limit the in-rush current on the CMSRC pin.", 4 ACDRV "Charge pump output to drive both adapter input n-channel MOSFET (ACFET) and reverse blocking n-channel MOSFET (RBFET). ACDRV voltage is 6V above CMSRC when voltage on ACDET pin is between 2.4V to 3.15V, voltage on VCC pin is (See Datasheet)", 5 ACOK (oc) "AC adapter detection open drain output. It is pulled HIGH to external pull-up supply rail by external pull-up resistor when voltage on ACDET pin is between 2.4V and 3.15V, and voltage on VCC is above UVLO and voltage on VCC (See Datasheet)", 6 ACDET (in) "Adapter detection input. Program adapter valid input threshold by connecting a resistor divider from adapter input to ACDET pin to GND pin. When ACDET pin is above 0.6V and VCC is above UVLO, REGN LDO is present, ACOK (See Datasheet)", 7 IOUT (power) "Buffered adapter or charge current output, selectable with SMBus command ChargeOption(). IOUT voltage is 20 times the differential voltage across sense resistor. Place a 100pF or less ceramic decoupling capacitor from IOUT (See Datasheet)", 8 SDA (io) "SMBus open-drain data I/O. Connect to SMBus data line from the host controller or smart battery. Connect a 10k ohm pull-up resistor according to SMBus specifications.", 9 SCL (in) "SMBus open-drain clock input. Connect to SMBus clock line from the host controller or smart battery. Connect a 10k ohm pull-up resistor according to SMBus specifications.", 10 ILIM (in) "Charge current limit input. Program ILIM voltage by connecting a resistor divider from system reference 3.3V rail to ILIM pin to GND pin. The lower of ILIM voltage or DAC limit voltage sets charge current regulation limit. (See Datasheet)", 11 BATDRV "Charge pump output to drive Battery to System n-channel MOSFET (BATFET). BATDRV voltage is 6V above SRN to turn on BATFET (Q5) to power the system from battery. BATDRV voltage is SRN voltage to turn off BATFET to power (See Datasheet)", 12 SRN (in) "Charge current sense resistor negative input. SRN pin is for battery voltage sensing as well. Connect the SRN pin to a 7.5 ohm resistor first then from resistor another terminal connect a 0.1uF ceramic capacitor to GND for (See Datasheet)", 13 SRP (in) "Charge current sense resistor positive input. Connect the SRP pin to a 10 ohm resistor first then from resistor another terminal connect to current sensing resistor. Connect a 0.1uF ceramic capacitor between current sensing (See Datasheet)", 14 GND (power) "IC ground. On PCB layout, connect to analog ground plane, and only connect to power ground plane through the power pad underneath IC.", 15 LODRV "Low side power MOSFET driver output. Connect to low side n-channel MOSFET gate.", 16 REGN (power) "Linear regulator output. REGN is the output of the 6V linear regulator supplied from VCC. The LDO is active when voltage on ACDET pin is above 0.6V and voltage on VCC is above UVLO. Connect a 1uF ceramic capacitor from REGN (See Datasheet)", 17 BTST (power) "High side power MOSFET driver power supply. Connect a 0.047uF capacitor from BTST to PHASE, and a bootstrap Schottky diode from REGN to BTST.", 18 HIDRV "High side power MOSFET driver output. Connect to the high side n-channel MOSFET gate.", 19 PHASE "High side power MOSFET driver source. Connect to the source of the high side n-channel MOSFET.", 20 VCC (power) "Input supply, diode OR from adapter or battery voltage. Use 10 ohm resistor and 1uF capacitor to ground as low pass filter to limit inrush current.", 21 EP (power) "Exposed pad beneath the IC. Analog ground and power ground star-connected only at the PowerPAD plane. Always solder PowerPAD to the board, and have vias on the PowerPAD plane connecting to analog ground and power ground (See Datasheet)"